# EAGLE library part LM1117LD-1.8 (library 1V8)
Linear regulators
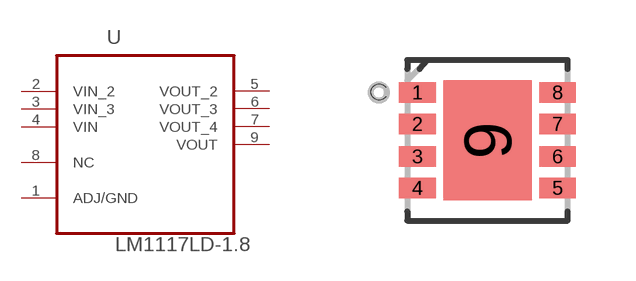
[diagram p2: symbol with the pads of DFN400X400X80-9N; footprint DFN400X400X80-9N]

Designator prefix U

## LM1117LD-1.8 (MPN: LM1117LD-1.8; OC_FARNELL: 1798353; OC_NEWARK: 75R2089; PACKAGE: LLP-8; SUPPLIER: NationalSemiconductor)  [DFN400X400X80-9N]
1  ADJ/GND  pas
2  VIN_2  in
3  VIN_3  in
4  VIN  in
5  VOUT_2  out
6  VOUT_3  out
7  VOUT_4  out
8  NC  nc
9  VOUT  out

## Footprint DFN400X400X80-9N (pad centres in mm)
smd 0.914 x 0.508: 1 -1.753,1.194; 2 -1.753,0.406; 3 -1.753,-0.406; 4 -1.753,-1.194; 5 1.753,-1.194; 6 1.753,-0.406; 7 1.753,0.406; 8 1.753,1.194
smd 2.21 x 2.997: 9 0,0